# EAGLE library part DS_IC_VREG_TPS7A39 (library Module_AIO)
Dual, 150-mA, Wide VIN Positive and Negative LDO Voltage Regulator
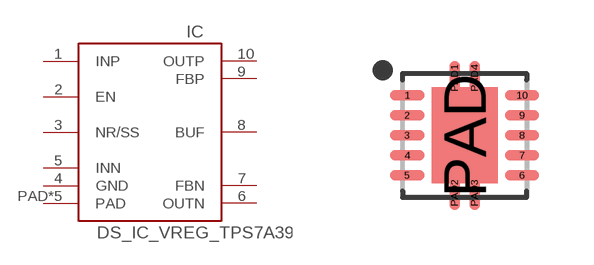
[diagram p9: symbol with the pads of DS_IC_VREG_WSON10-3X3; footprint DS_IC_VREG_WSON10-3X3]

Designator prefix IC

## DS_IC_VREG_TPS7A3901DSCR  [DS_IC_VREG_WSON10-3X3]
1  INP  pwr
2  EN  in
3  NR/SS  in
4  GND  pwr
5  INN  pwr
6  OUTN  pwr
7  FBN  in
8  BUF  in
9  FBP  in
10  OUTP  pwr
PAD  PAD  pwr
PAD1  PAD  pwr
PAD2  PAD  pwr
PAD3  PAD  pwr
PAD4  PAD  pwr

## Footprint DS_IC_VREG_WSON10-3X3 (pad centres in mm)
10-SON (DFN), 0.50 mm pitch, 3.00 X 3.00 X 0.80 mm body, 2.40 X 1.65 mm thermal pad 10-pin SON (DFN) package with 0.50 mm pitch with body size 3.00 X 3.00 X 0.80 mm and thermal pad size 2.40 X 1.65 mm
smd 0.86 x 0.264: 1 -1.435,1; 2 -1.435,0.5; 3 -1.435,0; 4 -1.435,-0.5; 5 -1.435,-1; 6 1.435,-1; 7 1.435,-0.5; 8 1.435,0; 9 1.435,0.5; 10 1.435,1
smd 1.65 x 2.4: PAD 0,0
smd 0.264 x 0.86: PAD1 -0.25,1.435; PAD2 -0.25,-1.435; PAD3 0.25,-1.435; PAD4 0.25,1.435